# Altium footprint library PcbLib.PcbLib: 16 footprints
Each footprint in its own frame and in the unit in brackets; x right, y up, seen from the top. Pads: shape width x height; smd on the part's side, far side on the other; paste and mask are expansions set on the pad; w line width, h text height; cw(c..) or ccw(c..) is an arc to the next point about the centre after c.
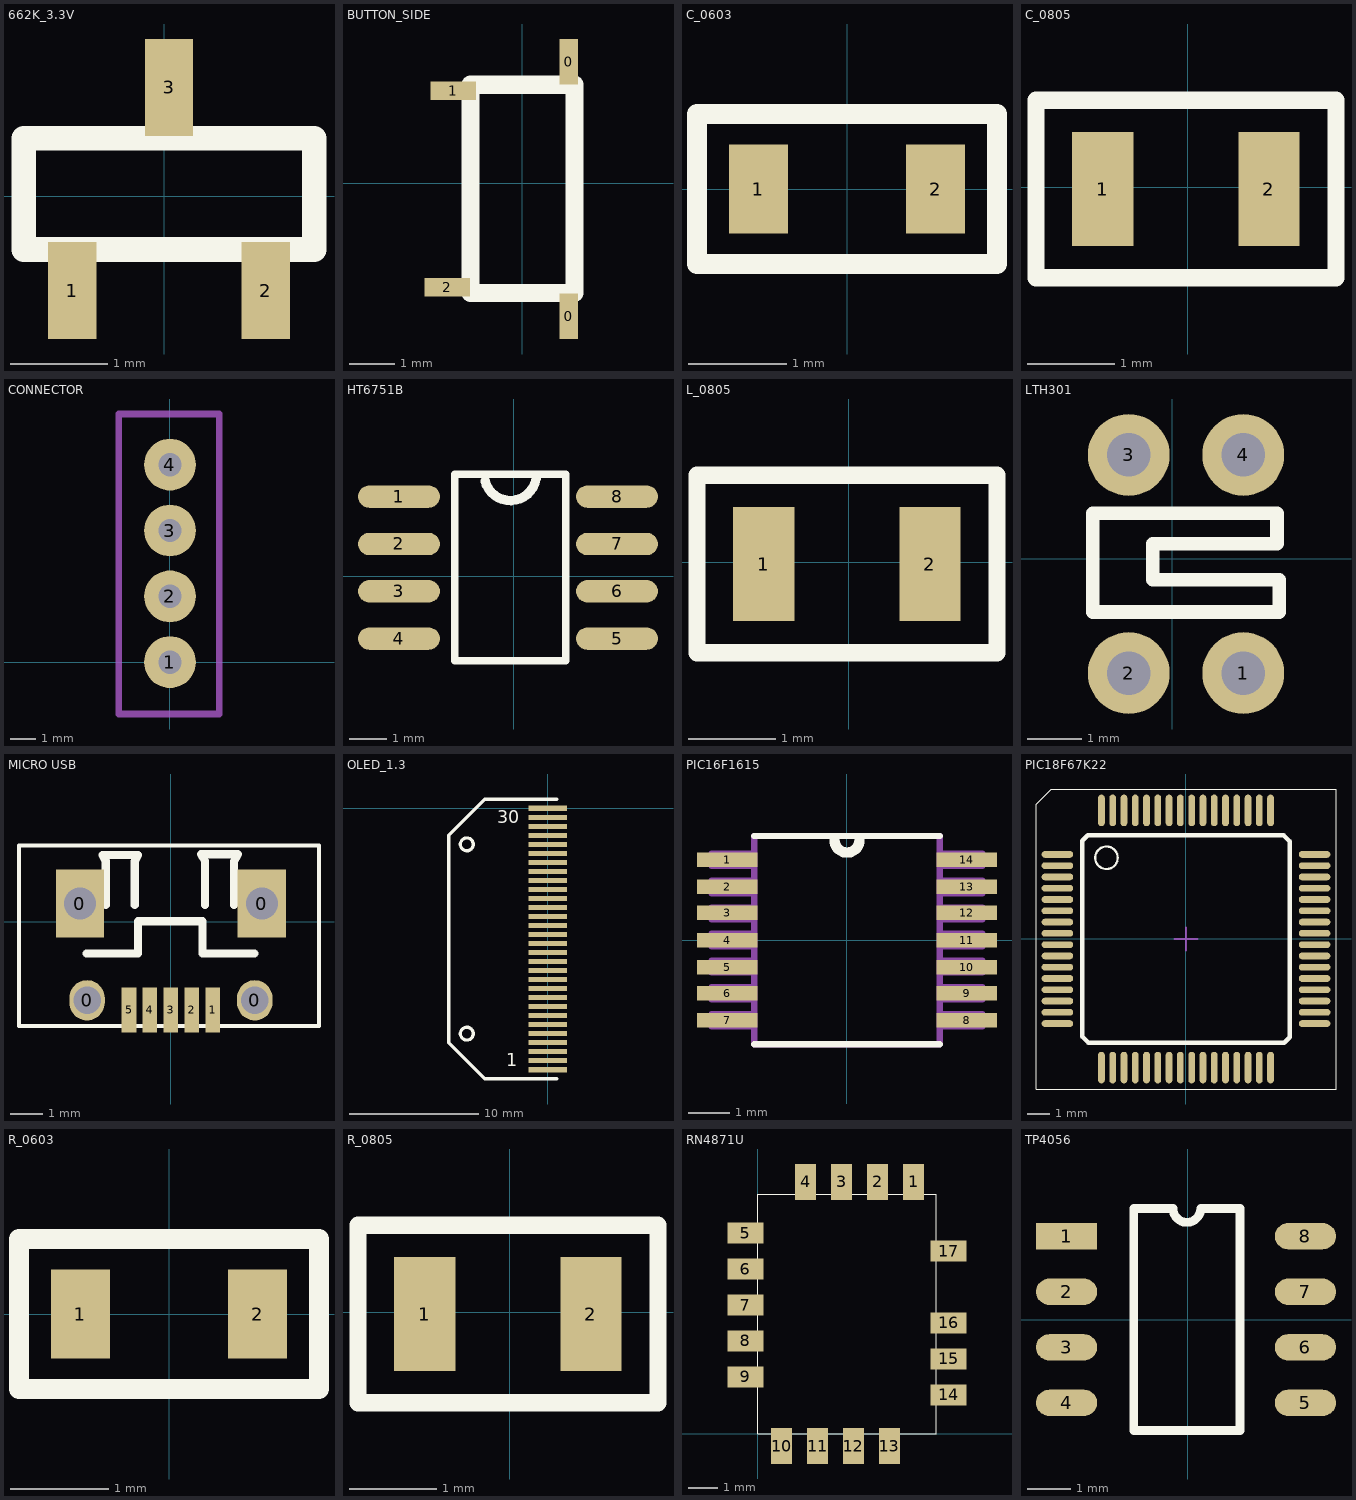
[diagram p0: the footprints below, top view; thin cyan lines are the x and y axes]

## 662K_3.3V [mm]
pads (3):
  rect 0.5x1 smd: 1(-0.95,-0.975) 2(1.05,-0.975) 3(0.05,1.125)
Top Overlay:
  lines w0.254: -1.45,-0.55 1.55,-0.55 1.55,0.6 -1.45,0.6 -1.45,-0.55
3D body "User Library-sot-3p290x130ll237h100.step": height 1, standoff 0, extent -1.4,-1.135 1.5,1.235

## BUTTON_SIDE [mm]
pads (4):
  rect 0.4x1 smd: 0(1.016,-2.921) 0(1.016,2.667)
  rect 1x0.4 smd: 1(-1.524,2.032) 2(-1.651,-2.286)
Top Overlay:
  lines w0.4: -1.143,-2.413 -1.143,2.164 1.143,2.164 1.143,-2.413 -1.143,-2.413
3D body "YD-3414 - Side SMD Switch .stp": height 1.63, standoff -0.51, extent -1.602,-3.275 2.944,3.025

## C_0603 [mm]
pads (2):
  rect 0.6x0.9 smd: 1(-0.9,0) 2(0.9,0)
Top Overlay:
  lines w0.2: -1.524,-0.762 -1.524,-0.274 -1.524,0.762 1.524,0.762 1.524,-0.762 -1.524,-0.762
3D body "0603 SMD Capacitor.step": height 0.31, standoff 0.01, extent -0.8,-0.4 0.8,0.4

## C_0805 [mm]
pads (2):
  rect 0.7x1.3 smd: 1(-0.974,-0.021) 2(0.926,-0.021)
Top Overlay:
  lines w0.2: -1.736,-1.037 1.693,-1.037 1.693,0.995 -1.736,0.995 -1.736,0.217 -1.736,-1.037
3D body "User Library-cap_0805_lowprofile.step": height 0.95, standoff 0, extent -1.025,-0.625 0.975,0.575

## CONNECTOR [mm]
pads (4):
  round 2 hole 0.9: 1(0,0) 2(0,2.54) 3(0,5.08) 4(0,7.62)
Mechanical 1:
  lines w0.254: -1.975,-2 1.9,-2 1.9,9.575 -1.975,9.575 -1.975,-2

## HT6751B [mm]
pads (8):
  oval 2.2x0.6 smd: 1(-3.079,2.142) 2(-3.079,0.872) 3(-3.079,-0.398) 4(-3.079,-1.668) 5(2.771,-1.668) 6(2.771,-0.398) 7(2.771,0.872) 8(2.771,2.142)
Top Overlay:
  lines w0.2: -1.579,-2.263 -1.579,2.737 1.396,2.737 1.396,-2.263 -1.579,-2.263
  lines w0.254: -0.771,2.567 ccw(c-0.091,2.737) 0.599,2.622
3D body "User Library-sop-8.step": height 1.6, standoff 0, extent -3.171,-2.26 2.871,2.76

## L_0805 [mm]
pads (2):
  rect 0.7x1.3 smd: 1(-0.974,-0.021) 2(0.926,-0.021)
Top Overlay:
  lines w0.2: -1.736,-1.037 -1.736,0.217 -1.736,0.995 1.693,0.995 1.693,-1.037 -1.736,-1.037
3D body "BL-LS0805UWC.STEP": height 0.8, standoff 0, extent -0.925,-0.65 0.875,0.6

## LTH301 [mm]
pads (4):
  round 1.5 hole 0.8: 1(1.3,-2.1) 2(-0.8,-2.1) 3(-0.8,1.9) 4(1.3,1.9)
Top Overlay:
  lines w0.254: -1.46,-0.98 1.96,-0.98 1.96,-0.39 -0.36,-0.39 -0.36,0.27 1.92,0.27 1.92,0.83 -1.46,0.83 -1.46,-0.98

## MICRO USB [mm]
pads (9):
  rect 1.5x2.1 hole 1 mask+0.06: 0(-2.819,0.568) 0(2.819,0.568)
  oval 1.1x1.25 hole 0.85: 0(-2.6,-2.432) 0(2.6,-2.432)
  rect 0.45x1.4 smd mask+0.06: 1(1.3,-2.732) 2(0.65,-2.732) 3(0,-2.732) 4(-0.65,-2.732) 5(-1.3,-2.732)
Top Overlay:
  lines w0.127: -4.71,-3.232 4.59,-3.232 4.59,2.368 -4.71,2.368 -4.71,-3.232
  lines w0.254: -2.62,-0.98 -1.02,-0.98 -1.02,0.018 0.98,0.018 0.98,-0.98 2.59,-0.98 ; -2.02,0.518 -2.02,1.516 -2.02,1.885 -2.125,2.068 -1.019,2.068 -1.12,1.876 -1.12,1.591 -1.12,0.518 ; 1.055,0.518 1.055,1.516 1.055,1.885 0.935,2.093 2.07,2.093 1.955,1.876 1.955,1.591 1.955,0.518
3D body "micro_usb_connector.stp": height 2.74, standoff -0.66, extent -3.886,-2.594 3.886,3.249

## OLED_1.3 [mm]
pads (30):
  rect 3x0.4 smd: 1(0,-20.3) 2(0,-19.6) 3(0,-18.9) 4(0,-18.2) 5(0,-17.5) 6(0,-16.8) 7(0,-16.1) 8(0,-15.4) 9(0,-14.7) 10(0,-14) 11(0,-13.3) 12(0,-12.6) 13(0,-11.9) 14(0,-11.2) 15(0,-10.5) 16(0,-9.8) 17(0,-9.1) 18(0,-8.4) 19(0,-7.7) 20(0,-7) 21(0,-6.3) 22(0,-5.6) 23(0,-4.9) 24(0,-4.2) 25(0,-3.5) 26(0,-2.8) 27(0,-2.1) 28(0,-1.4) 29(0,-0.7) 30(0,0)
Top Overlay:
  circle w0.254: c-6.3,-2.8 r0.5
  circle w0.254: c-6.3,-17.5 r0.5
  lines w0.254: 0.7,-21 -4.9,-21 ; 0.7,0.7 -4.9,0.7 -7.7,-2.1 -7.7,-18.2 -4.9,-21 ; -4.9,-21 -4.9,-21
  text "1" at -3.246,-20.046 h1
  text "30" at -3.946,-1.146 h1
3D body "oled.STEP": height 0.11, standoff -2.49, extent -8.16,-26.975 17.55,6.675

## PIC16F1615 [mil]
pads (14):
  rect 58x14 smd: 1(-115,77) 2(-115,51) 3(-115,26) 4(-115,0) 5(-115,-26) 6(-115,-51) 7(-115,-77) 8(115,-77) 9(115,-51) 10(115,-26) 11(115,0) 12(115,26) 13(115,51) 14(115,77)
Top Overlay:
  lines w6: -89,-100 89,-100 ; -89,100 -12,100 12,100 89,100
  lines w10: -12,96 ccw(c0,96) 12,96
Mechanical 4:
  lines w6: -130,-83 -130,-71 ; -130,-83 -89,-83 ; -130,-83 -130,-71 ; -130,-83 -89,-83 ; -130,-71 -89,-71 ; -130,-71 -89,-71 ; -130,-57 -130,-45 ; -130,-57 -89,-57 ; -130,-57 -130,-45 ; -130,-57 -89,-57 ; -130,-45 -89,-45 ; -130,-45 -89,-45 ; -130,-31 -130,-20 ; -130,-31 -89,-31 ; -130,-31 -130,-20 ; -130,-31 -89,-31 ; -130,-20 -89,-20 ; -130,-20 -89,-20 ; -130,-6 -130,6 ; -130,-6 -89,-6 ; -130,-6 -130,6 ; -130,-6 -89,-6 ; -130,6 -89,6 ; -130,6 -89,6 ; -130,20 -130,31 ; -130,20 -89,20 ; -130,20 -130,31 ; -130,20 -89,20 ; -130,31 -89,31 ; -130,31 -89,31 ; -130,45 -130,57 ; -130,45 -89,45 ; -130,45 -130,57 ; -130,45 -89,45 ; -130,57 -89,57 ; -130,57 -89,57 ; -130,71 -130,83 ; -130,71 -89,71 ; -130,71 -130,83 ; -130,71 -89,71 ; -130,83 -89,83 ; -130,83 -89,83 ; -89,-100 89,-100 ; -89,-100 -89,100 ; -89,-100 89,-100 ; -89,-100 -89,100 ; -89,-83 -89,-71 ; -89,-83 -89,-71 ; -89,-57 -89,-45 ; -89,-57 -89,-45 ; -89,-31 -89,-20 ; -89,-31 -89,-20 ; -89,-6 -89,6 ; -89,-6 -89,6 ; -89,20 -89,31 ; -89,20 -89,31 ; -89,45 -89,57 ; -89,45 -89,57 ; -89,71 -89,83 ; -89,71 -89,83 ; -89,100 -12,100 ; -89,100 -12,100 ; -12,100 12,100 ; -12,100 12,100 ; 12,100 89,100 ; 12,100 89,100 ; 89,-100 89,100 ; 89,-100 89,100 ; 89,-83 89,-71 ; 89,-83 130,-83 ; 89,-83 89,-71 ; 89,-83 130,-83 ; 89,-71 130,-71 ; 89,-71 130,-71 ; 89,-57 89,-45 ; 89,-57 130,-57 ; 89,-57 89,-45 ; 89,-57 130,-57 ; 89,-45 130,-45 ; 89,-45 130,-45 ; 89,-31 89,-20 ; 89,-31 130,-31 ; 89,-31 89,-20 ; 89,-31 130,-31 ; 89,-20 130,-20 ; 89,-20 130,-20 ; 89,-6 89,6 ; 89,-6 130,-6 ; 89,-6 89,6 ; 89,-6 130,-6 ; 89,6 130,6 ; 89,6 130,6 ; 89,20 89,31 ; 89,20 130,20 ; 89,20 89,31 ; 89,20 130,20 ; 89,31 130,31 ; 89,31 130,31 ; 89,45 89,57 ; 89,45 130,45 ; 89,45 89,57 ; 89,45 130,45 ; 89,57 130,57 ; 89,57 130,57 ; 89,71 89,83 ; 89,71 130,71 ; 89,71 89,83 ; 89,71 130,71 ; 89,83 130,83 ; 89,83 130,83 ; 130,-83 130,-71 ; 130,-83 130,-71 ; 130,-57 130,-45 ; 130,-57 130,-45 ; 130,-31 130,-20 ; 130,-31 130,-20 ; 130,-6 130,6 ; 130,-6 130,6 ; 130,20 130,31 ; 130,20 130,31 ; 130,45 130,57 ; 130,45 130,57 ; 130,71 130,83 ; 130,71 130,83
3D body "User Library-tssop14-2.step": height 47.24, standoff 0, extent -124.99,-100.39 126.98,100.4

## PIC18F67K22 [mm]
pads (64):
  oval 1.4x0.3 smd: 1(-5.7,3.75) 2(-5.7,3.25) 3(-5.7,2.75) 4(-5.7,2.25) 5(-5.7,1.75) 6(-5.7,1.25) 7(-5.7,0.75) 8(-5.7,0.25) 9(-5.7,-0.25) 10(-5.7,-0.75) 11(-5.7,-1.25) 12(-5.7,-1.75) 13(-5.7,-2.25) 14(-5.7,-2.75) 15(-5.7,-3.25) 16(-5.7,-3.75) 33(5.7,-3.75) 34(5.7,-3.25) 35(5.7,-2.75) 36(5.7,-2.25) 37(5.7,-1.75) 38(5.7,-1.25) 39(5.7,-0.75) 40(5.7,-0.25) 41(5.7,0.25) 42(5.7,0.75) 43(5.7,1.25) 44(5.7,1.75) 45(5.7,2.25) 46(5.7,2.75) 47(5.7,3.25) 48(5.7,3.75)
  oval 0.3x1.4 smd: 17(-3.75,-5.7) 18(-3.25,-5.7) 19(-2.75,-5.7) 20(-2.25,-5.7) 21(-1.75,-5.7) 22(-1.25,-5.7) 23(-0.75,-5.7) 24(-0.25,-5.7) 25(0.25,-5.7) 26(0.75,-5.7) 27(1.25,-5.7) 28(1.75,-5.7) 29(2.25,-5.7) 30(2.75,-5.7) 31(3.25,-5.7) 32(3.75,-5.7) 49(3.75,5.7) 50(3.25,5.7) 51(2.75,5.7) 52(2.25,5.7) 53(1.75,5.7) 54(1.25,5.7) 55(0.75,5.7) 56(0.25,5.7) 57(-0.25,5.7) 58(-0.75,5.7) 59(-1.25,5.7) 60(-1.75,5.7) 61(-2.25,5.7) 62(-2.75,5.7) 63(-3.25,5.7) 64(-3.75,5.7)
Top Overlay:
  circle w0.1: c-3.525,3.6 r0.5
  lines w0.05: -6.65,-6.65 6.65,-6.65 6.65,6.65 -5.975,6.65 -6.65,5.975 -6.65,-6.65
  lines w0.2: -4.6,-4.325 -4.325,-4.6 4.35,-4.6 4.6,-4.35 4.6,4.325 4.325,4.6 -4.35,4.6 -4.6,4.35 -4.6,-4.325
Mechanical 15:
  lines w0.1: -0.5,0 0.5,0 ; 0,-0.5 0,0.5
3D body "PIC18F67K22-I_PT.stp": height 1.2, standoff 0, extent -6,-6 6,6

## R_0603 [mm]
pads (2):
  rect 0.6x0.9 smd: 1(-0.9,0) 2(0.9,0)
Top Overlay:
  lines w0.2: -1.524,-0.762 -1.524,-0.274 -1.524,0.762 1.524,0.762 1.524,-0.762 -1.524,-0.762
3D body "User Library-R0603-1.step": height 0.43, standoff -0.02, extent -0.95,-0.4 0.95,0.4

## R_0805 [mm]
pads (2):
  rect 0.7x1.3 smd: 1(-0.974,-0.021) 2(0.926,-0.021)
Top Overlay:
  lines w0.2: -1.736,-1.037 -1.736,0.217 -1.736,0.995 1.693,0.995 1.693,-1.037 -1.736,-1.037
3D body "User Library-res0805-1.step": height 0.5, standoff 0, extent -1.025,-0.65 0.975,0.6

## RN4871U [mm]
pads (17):
  rect 0.7x1.2 smd: 1(5.207,8.409) 2(4.005,8.409) 3(2.802,8.409) 4(1.6,8.409) 10(0.8,-0.408) 11(2,-0.408) 12(3.2,-0.408) 13(4.4,-0.408)
  rect 1.2x0.7 smd: 5(-0.408,6.7) 6(-0.408,5.5) 7(-0.408,4.3) 8(-0.408,3.1) 9(-0.408,1.9) 14(6.377,1.3) 15(6.377,2.5) 16(6.377,3.7) 17(6.377,6.1)
Top Overlay:
  lines w0.01: 5.969,5.969 5.969,8.001 ; 5.969,8.001 5.969,0 0,0 0,8.001 5.969,8.001

## TP4056 [mm]
pads (8):
  rect 1.4x0.6 smd: 1(-2.767,1.905)
  oval 1.4x0.6 smd: 2(-2.767,0.635) 3(-2.767,-0.635) 4(-2.767,-1.905) 5(2.693,-1.905) 6(2.693,-0.635) 7(2.693,0.635) 8(2.693,1.905)
Top Overlay:
  lines w0.2: -1.232,-2.54 1.198,-2.54 1.198,2.54 0.3,2.54 cw(c-0.017,2.54) -0.335,2.54 -1.232,2.54 -1.232,-2.54
3D body "User Library-SOIC-8-1.step": height 1.75, standoff 0, extent -3.025,-2.425 2.975,2.475